# Altium schematic symbol library STM32L431CBY7TR.SchLib: 1 symbol
Pins are listed as number, name and electrical type; pins without a type are passive.

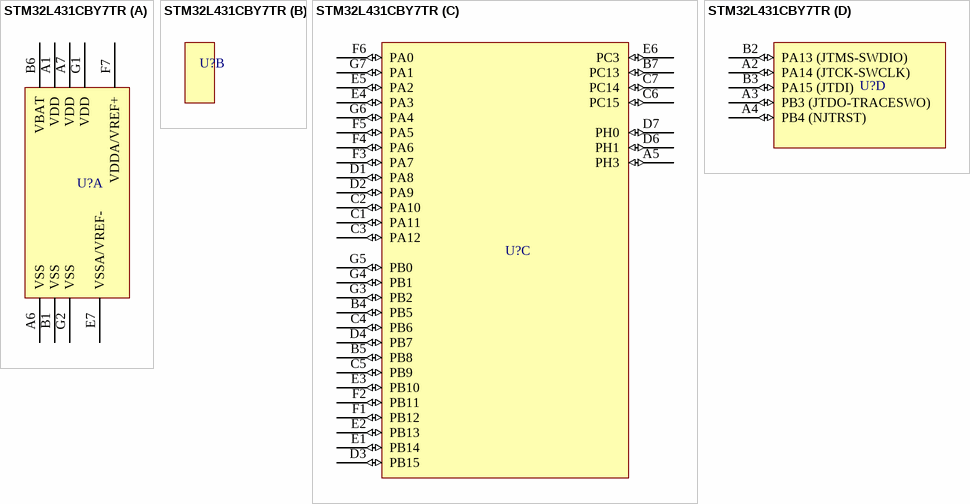
[diagram p0: symbol STM32L431CBY7TR]

## STM32L431CBY7TR
designator U?  (value not drawn)
Ultra-low-power with FPU Arm Cortex-M4 MCU 80 MHz with 128 Kbytes of Flash memory
part A pins: A1 VDD (power), A6 VSS (power), A7 VDD (power), B1 VSS (power), B6 VBAT (power), E7 VSSA/VREF- (power), F7 VDDA/VREF+ (power), G1 VDD (power), G2 VSS (power)
part C pins: A5 PH3 (io), B4 PB5 (io), B5 PB8 (io), B7 PC13 (io), C1 PA11 (io), C2 PA10 (io), C3 PA12 (io), C4 PB6 (io), C5 PB9 (io), C6 PC15 (io), C7 PC14 (io), D1 PA8 (io), D2 PA9 (io), D3 PB15 (io), D4 PB7 (io), D6 PH1 (io), D7 PH0 (io), E1 PB14 (io), E2 PB13 (io), E3 PB10 (io), E4 PA3 (io), E5 PA2 (io), E6 PC3 (io), F1 PB12 (io), F2 PB11 (io), F3 PA7 (io), F4 PA6 (io), F5 PA5 (io), F6 PA0 (io), G3 PB2 (io), G4 PB1 (io), G5 PB0 (io), G6 PA4 (io), G7 PA1 (io)
part D pins: A2 PA14 (JTCK-SWCLK) (io), A3 PB3 (JTDO-TRACESWO) (io), A4 PB4 (NJTRST) (io), B2 PA13 (JTMS-SWDIO) (io), B3 PA15 (JTDI) (io)